# Altium integrated library Cypress Communication Transmitter.IntLib: 8 symbols
Pins are listed as number, name and electrical type; pins without a type are passive.

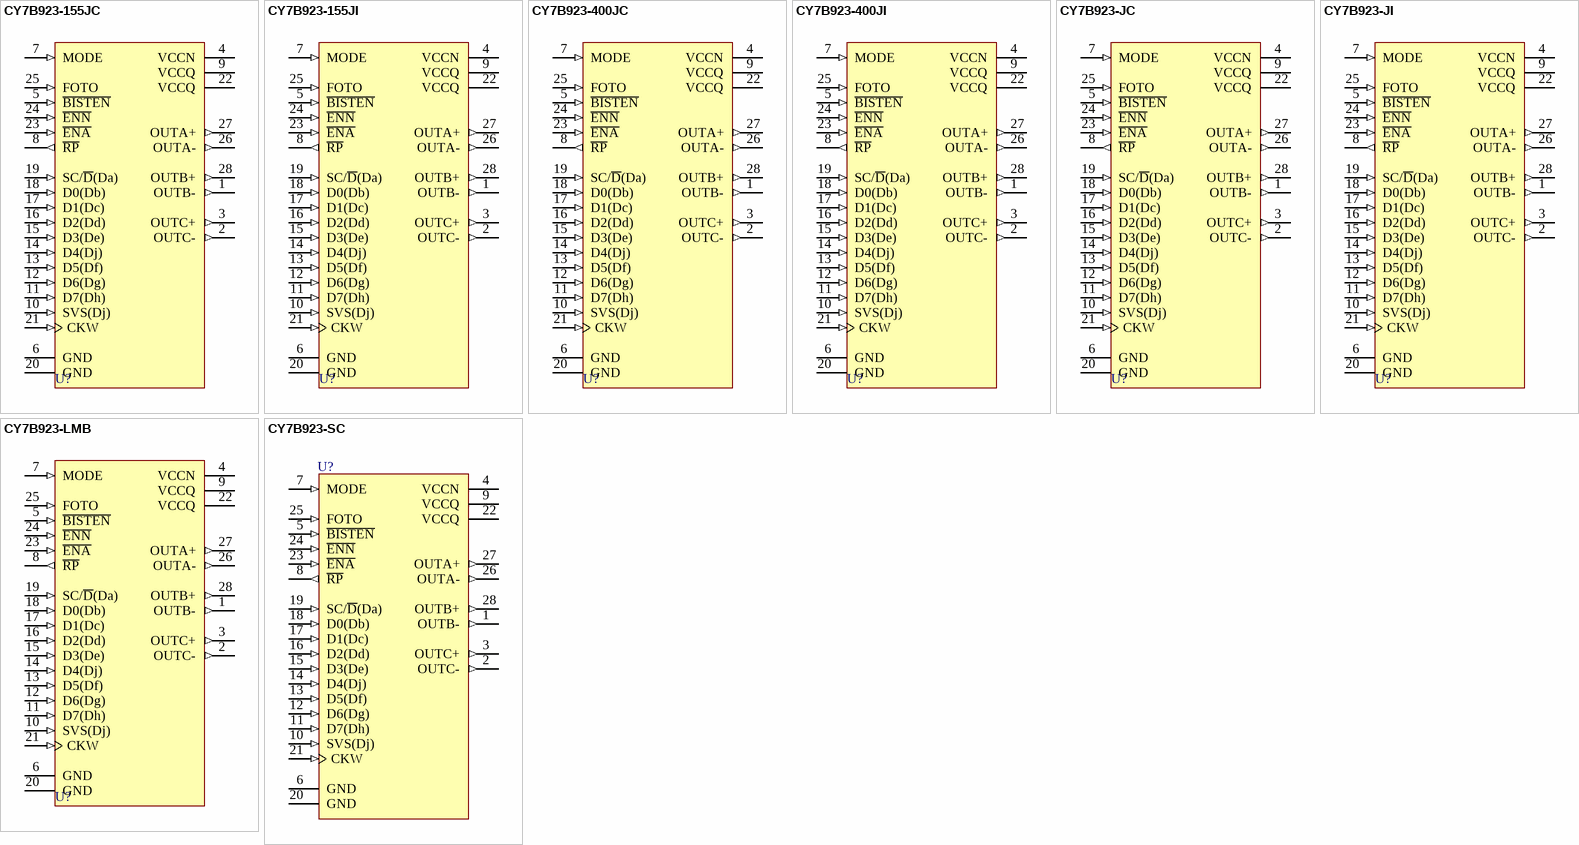
[diagram p0: symbols CY7B923-155JC to CY7B923-SC]

## CY7B923-155JC
designator U?
HOTLink Transmitter; Published: 11-Dec-2002; LatestRevisionDate: 13-Apr-2006; LatestRevisionNote: IPC-7351 Footprint Added.; DatasheetVersion: 5-Apr-1999; PackageVersion: Jul-2000; PackageReference: J64; Publisher: Altium Limited; PackageDescription: 28-Pin Plastic Leaded Chip Carrier 1.27 mm Pitch; Code_IPC: PLCC-28; ComponentLink1Description: Manufacturer Link; ComponentLink1URL: http://www.cypress.com/; ComponentLink2Description: Datasheet; ComponentLink2URL: http://www.cypress.com/portal/server.pt/gateway/PTARGS_0_2_1524_209_259_43/http%3B/sjapp20.mis.cypress.com%3B7001/publishedcontent/publish/design_resources/datasheets/contents/cy7b923_5.pdf
footprint J64_N (Leaded Chip Carrier, 28-Leads, Body 11.5x11.5mm, Pitch 1.27mm, IPC Medium Density)
footprint J64_L (Leaded Chip Carrier, 28-Leads, Body 11.5x11.5mm, Pitch 1.27mm, IPC High Density)
footprint J64_M (Leaded Chip Carrier, 28-Leads, Body 11.5x11.5mm, Pitch 1.27mm, IPC Low Density)
3D model CY7B923-J64 (28-Pin Plastic Leaded Chip Carrier 1.27 mm Pitch)
pins: 1 OUTB- (out), 2 OUTC- (out), 3 OUTC+ (out), 4 VCCN (power), 5 ~{BISTEN} (in), 6 GND (power), 7 MODE (in), 8 ~{RP} (out), 9 VCCQ (power), 10 SVS(Dj) (in), 11 D7(Dh) (in), 12 D6(Dg) (in), 13 D5(Df) (in), 14 D4(Dj) (in), 15 D3(De) (in), 16 D2(Dd) (in), 17 D1(Dc) (in), 18 D0(Db) (in), 19 SC/~{D}(Da) (in), 20 GND (power), 21 CKW (in), 22 VCCQ (power), 23 ~{ENA} (in), 24 ~{ENN} (in), 25 FOTO (in), 26 OUTA- (out), 27 OUTA+ (out), 28 OUTB+ (out)

## CY7B923-155JI
designator U?
HOTLink Transmitter; Published: 11-Dec-2002; LatestRevisionDate: 13-Apr-2006; LatestRevisionNote: IPC-7351 Footprint Added.; DatasheetVersion: 5-Apr-1999; PackageVersion: Jul-2000; PackageReference: J64; Publisher: Altium Limited; PackageDescription: 28-Pin Plastic Leaded Chip Carrier 1.27 mm Pitch; Code_IPC: PLCC-28; ComponentLink1Description: Manufacturer Link; ComponentLink1URL: http://www.cypress.com/; ComponentLink2Description: Datasheet; ComponentLink2URL: http://www.cypress.com/portal/server.pt/gateway/PTARGS_0_2_1524_209_259_43/http%3B/sjapp20.mis.cypress.com%3B7001/publishedcontent/publish/design_resources/datasheets/contents/cy7b923_5.pdf
footprint J64_N (Leaded Chip Carrier, 28-Leads, Body 11.5x11.5mm, Pitch 1.27mm, IPC Medium Density)
footprint J64_L (Leaded Chip Carrier, 28-Leads, Body 11.5x11.5mm, Pitch 1.27mm, IPC High Density)
footprint J64_M (Leaded Chip Carrier, 28-Leads, Body 11.5x11.5mm, Pitch 1.27mm, IPC Low Density)
3D model CY7B923-J64 (28-Pin Plastic Leaded Chip Carrier 1.27 mm Pitch)
pins: 1 OUTB- (out), 2 OUTC- (out), 3 OUTC+ (out), 4 VCCN (power), 5 ~{BISTEN} (in), 6 GND (power), 7 MODE (in), 8 ~{RP} (out), 9 VCCQ (power), 10 SVS(Dj) (in), 11 D7(Dh) (in), 12 D6(Dg) (in), 13 D5(Df) (in), 14 D4(Dj) (in), 15 D3(De) (in), 16 D2(Dd) (in), 17 D1(Dc) (in), 18 D0(Db) (in), 19 SC/~{D}(Da) (in), 20 GND (power), 21 CKW (in), 22 VCCQ (power), 23 ~{ENA} (in), 24 ~{ENN} (in), 25 FOTO (in), 26 OUTA- (out), 27 OUTA+ (out), 28 OUTB+ (out)

## CY7B923-400JC
designator U?
HOTLink Transmitter; Published: 11-Dec-2002; LatestRevisionDate: 13-Apr-2006; LatestRevisionNote: IPC-7351 Footprint Added.; DatasheetVersion: 5-Apr-1999; PackageVersion: Jul-2000; PackageReference: J64; Publisher: Altium Limited; PackageDescription: 28-Pin Plastic Leaded Chip Carrier 1.27 mm Pitch; Code_IPC: PLCC-28; ComponentLink1Description: Manufacturer Link; ComponentLink1URL: http://www.cypress.com/; ComponentLink2Description: Datasheet; ComponentLink2URL: http://www.cypress.com/portal/server.pt/gateway/PTARGS_0_2_1524_209_259_43/http%3B/sjapp20.mis.cypress.com%3B7001/publishedcontent/publish/design_resources/datasheets/contents/cy7b923_5.pdf
footprint J64_N (Leaded Chip Carrier, 28-Leads, Body 11.5x11.5mm, Pitch 1.27mm, IPC Medium Density)
footprint J64_L (Leaded Chip Carrier, 28-Leads, Body 11.5x11.5mm, Pitch 1.27mm, IPC High Density)
footprint J64_M (Leaded Chip Carrier, 28-Leads, Body 11.5x11.5mm, Pitch 1.27mm, IPC Low Density)
3D model CY7B923-J64 (28-Pin Plastic Leaded Chip Carrier 1.27 mm Pitch)
pins: 1 OUTB- (out), 2 OUTC- (out), 3 OUTC+ (out), 4 VCCN (power), 5 ~{BISTEN} (in), 6 GND (power), 7 MODE (in), 8 ~{RP} (out), 9 VCCQ (power), 10 SVS(Dj) (in), 11 D7(Dh) (in), 12 D6(Dg) (in), 13 D5(Df) (in), 14 D4(Dj) (in), 15 D3(De) (in), 16 D2(Dd) (in), 17 D1(Dc) (in), 18 D0(Db) (in), 19 SC/~{D}(Da) (in), 20 GND (power), 21 CKW (in), 22 VCCQ (power), 23 ~{ENA} (in), 24 ~{ENN} (in), 25 FOTO (in), 26 OUTA- (out), 27 OUTA+ (out), 28 OUTB+ (out)

## CY7B923-400JI
designator U?
HOTLink Transmitter; Published: 11-Dec-2002; LatestRevisionDate: 13-Apr-2006; LatestRevisionNote: IPC-7351 Footprint Added.; DatasheetVersion: 5-Apr-1999; PackageVersion: Jul-2000; PackageReference: J64; Publisher: Altium Limited; PackageDescription: 28-Pin Plastic Leaded Chip Carrier 1.27 mm Pitch; Code_IPC: PLCC-28; ComponentLink1Description: Manufacturer Link; ComponentLink1URL: http://www.cypress.com/; ComponentLink2Description: Datasheet; ComponentLink2URL: http://www.cypress.com/portal/server.pt/gateway/PTARGS_0_2_1524_209_259_43/http%3B/sjapp20.mis.cypress.com%3B7001/publishedcontent/publish/design_resources/datasheets/contents/cy7b923_5.pdf
footprint J64_N (Leaded Chip Carrier, 28-Leads, Body 11.5x11.5mm, Pitch 1.27mm, IPC Medium Density)
footprint J64_L (Leaded Chip Carrier, 28-Leads, Body 11.5x11.5mm, Pitch 1.27mm, IPC High Density)
footprint J64_M (Leaded Chip Carrier, 28-Leads, Body 11.5x11.5mm, Pitch 1.27mm, IPC Low Density)
3D model CY7B923-J64 (28-Pin Plastic Leaded Chip Carrier 1.27 mm Pitch)
pins: 1 OUTB- (out), 2 OUTC- (out), 3 OUTC+ (out), 4 VCCN (power), 5 ~{BISTEN} (in), 6 GND (power), 7 MODE (in), 8 ~{RP} (out), 9 VCCQ (power), 10 SVS(Dj) (in), 11 D7(Dh) (in), 12 D6(Dg) (in), 13 D5(Df) (in), 14 D4(Dj) (in), 15 D3(De) (in), 16 D2(Dd) (in), 17 D1(Dc) (in), 18 D0(Db) (in), 19 SC/~{D}(Da) (in), 20 GND (power), 21 CKW (in), 22 VCCQ (power), 23 ~{ENA} (in), 24 ~{ENN} (in), 25 FOTO (in), 26 OUTA- (out), 27 OUTA+ (out), 28 OUTB+ (out)

## CY7B923-JC
designator U?
HOTLink Transmitter; Published: 11-Dec-2002; LatestRevisionDate: 13-Apr-2006; LatestRevisionNote: IPC-7351 Footprint Added.; DatasheetVersion: 5-Apr-1999; PackageVersion: Jul-2000; PackageReference: J64; Publisher: Altium Limited; PackageDescription: 28-Pin Plastic Leaded Chip Carrier 1.27 mm Pitch; Code_IPC: PLCC-28; ComponentLink1Description: Manufacturer Link; ComponentLink1URL: http://www.cypress.com/; ComponentLink2Description: Datasheet; ComponentLink2URL: http://www.cypress.com/portal/server.pt/gateway/PTARGS_0_2_1524_209_259_43/http%3B/sjapp20.mis.cypress.com%3B7001/publishedcontent/publish/design_resources/datasheets/contents/cy7b923_5.pdf
footprint J64_N (Leaded Chip Carrier, 28-Leads, Body 11.5x11.5mm, Pitch 1.27mm, IPC Medium Density)
footprint J64_L (Leaded Chip Carrier, 28-Leads, Body 11.5x11.5mm, Pitch 1.27mm, IPC High Density)
footprint J64_M (Leaded Chip Carrier, 28-Leads, Body 11.5x11.5mm, Pitch 1.27mm, IPC Low Density)
3D model CY7B923-J64 (28-Pin Plastic Leaded Chip Carrier 1.27 mm Pitch)
pins: 1 OUTB- (out), 2 OUTC- (out), 3 OUTC+ (out), 4 VCCN (power), 5 ~{BISTEN} (in), 6 GND (power), 7 MODE (in), 8 ~{RP} (out), 9 VCCQ (power), 10 SVS(Dj) (in), 11 D7(Dh) (in), 12 D6(Dg) (in), 13 D5(Df) (in), 14 D4(Dj) (in), 15 D3(De) (in), 16 D2(Dd) (in), 17 D1(Dc) (in), 18 D0(Db) (in), 19 SC/~{D}(Da) (in), 20 GND (power), 21 CKW (in), 22 VCCQ (power), 23 ~{ENA} (in), 24 ~{ENN} (in), 25 FOTO (in), 26 OUTA- (out), 27 OUTA+ (out), 28 OUTB+ (out)

## CY7B923-JI
designator U?
HOTLink Transmitter; Published: 11-Dec-2002; LatestRevisionDate: 13-Apr-2006; LatestRevisionNote: IPC-7351 Footprint Added.; DatasheetVersion: 5-Apr-1999; PackageVersion: Jul-2000; PackageReference: J64; Publisher: Altium Limited; PackageDescription: 28-Pin Plastic Leaded Chip Carrier 1.27 mm Pitch; Code_IPC: PLCC-28; ComponentLink1Description: Manufacturer Link; ComponentLink1URL: http://www.cypress.com/; ComponentLink2Description: Datasheet; ComponentLink2URL: http://www.cypress.com/portal/server.pt/gateway/PTARGS_0_2_1524_209_259_43/http%3B/sjapp20.mis.cypress.com%3B7001/publishedcontent/publish/design_resources/datasheets/contents/cy7b923_5.pdf
footprint J64_N (Leaded Chip Carrier, 28-Leads, Body 11.5x11.5mm, Pitch 1.27mm, IPC Medium Density)
footprint J64_L (Leaded Chip Carrier, 28-Leads, Body 11.5x11.5mm, Pitch 1.27mm, IPC High Density)
footprint J64_M (Leaded Chip Carrier, 28-Leads, Body 11.5x11.5mm, Pitch 1.27mm, IPC Low Density)
3D model CY7B923-J64 (28-Pin Plastic Leaded Chip Carrier 1.27 mm Pitch)
pins: 1 OUTB- (out), 2 OUTC- (out), 3 OUTC+ (out), 4 VCCN (power), 5 ~{BISTEN} (in), 6 GND (power), 7 MODE (in), 8 ~{RP} (out), 9 VCCQ (power), 10 SVS(Dj) (in), 11 D7(Dh) (in), 12 D6(Dg) (in), 13 D5(Df) (in), 14 D4(Dj) (in), 15 D3(De) (in), 16 D2(Dd) (in), 17 D1(Dc) (in), 18 D0(Db) (in), 19 SC/~{D}(Da) (in), 20 GND (power), 21 CKW (in), 22 VCCQ (power), 23 ~{ENA} (in), 24 ~{ENN} (in), 25 FOTO (in), 26 OUTA- (out), 27 OUTA+ (out), 28 OUTB+ (out)

## CY7B923-LMB
designator U?
HOTLink Transmitter; ComponentAvailability: Obsolete; Published: 11-Dec-2002; DatasheetVersion: 5-Apr-1999; PackageVersion: Apr-2001; PackageReference: L64; Publisher: Altium Limited; PackageDescription: Leadless Chip Carrier; 28 Terminals; Body 11.4 x 11.4 mm; ComponentLink1Description: Manufacturer Link; ComponentLink1URL: http://www.cypress.com/; ComponentLink2Description: Datasheet; ComponentLink2URL: http://www.cypress.com/portal/server.pt/gateway/PTARGS_0_2_1524_209_259_43/http%3B/sjapp20.mis.cypress.com%3B7001/publishedcontent/publish/design_resources/datasheets/contents/cy7b923_5.pdf
footprint L64 (Leadless Chip Carrier; 28 Terminals; Body 11.4 x 11.4 mm)
pins: 1 OUTB- (out), 2 OUTC- (out), 3 OUTC+ (out), 4 VCCN (power), 5 ~{BISTEN} (in), 6 GND (power), 7 MODE (in), 8 ~{RP} (out), 9 VCCQ (power), 10 SVS(Dj) (in), 11 D7(Dh) (in), 12 D6(Dg) (in), 13 D5(Df) (in), 14 D4(Dj) (in), 15 D3(De) (in), 16 D2(Dd) (in), 17 D1(Dc) (in), 18 D0(Db) (in), 19 SC/~{D}(Da) (in), 20 GND (power), 21 CKW (in), 22 VCCQ (power), 23 ~{ENA} (in), 24 ~{ENN} (in), 25 FOTO (in), 26 OUTA- (out), 27 OUTA+ (out), 28 OUTB+ (out)

## CY7B923-SC
designator U?
HOTLink Transmitter; Published: 11-Dec-2002; LatestRevisionDate: 13-Apr-2006; LatestRevisionNote: IPC-7351 Footprint Added.; DatasheetVersion: 5-Apr-1999; PackageVersion: Apr-1999; PackageReference: S21; Publisher: Altium Limited; PackageDescription: 28-Pin Molded Small Outline Integrated Circuit 1.27 mm Pitch; ComponentLink1Description: Manufacturer Link; ComponentLink1URL: http://www.cypress.com/; ComponentLink2Description: Datasheet; ComponentLink2URL: http://www.cypress.com/portal/server.pt/gateway/PTARGS_0_2_1524_209_259_43/http%3B/sjapp20.mis.cypress.com%3B7001/publishedcontent/publish/design_resources/datasheets/contents/cy7b923_5.pdf
footprint S21_N (SOIC, 28-Leads, Body 17.9x7.5mm, Pitch 1.27mm, IPC Medium Density)
footprint S21_L (SOIC, 28-Leads, Body 17.9x7.5mm, Pitch 1.27mm, IPC High Density)
footprint S21_M (SOIC, 28-Leads, Body 17.9x7.5mm, Pitch 1.27mm, IPC Low Density)
3D model S21 (28-Pin Molded Small Outline Integrated Circuit 1.27 mm Pitch)
pins: 1 OUTB- (out), 2 OUTC- (out), 3 OUTC+ (out), 4 VCCN (power), 5 ~{BISTEN} (in), 6 GND (power), 7 MODE (in), 8 ~{RP} (out), 9 VCCQ (power), 10 SVS(Dj) (in), 11 D7(Dh) (in), 12 D6(Dg) (in), 13 D5(Df) (in), 14 D4(Dj) (in), 15 D3(De) (in), 16 D2(Dd) (in), 17 D1(Dc) (in), 18 D0(Db) (in), 19 SC/~{D}(Da) (in), 20 GND (power), 21 CKW (in), 22 VCCQ (power), 23 ~{ENA} (in), 24 ~{ENN} (in), 25 FOTO (in), 26 OUTA- (out), 27 OUTA+ (out), 28 OUTB+ (out)